# Altium schematic symbol library SCH - PASSIVES - CAPACITOR - MAL216099101E3.SCHLIB: 1 symbol
Pins are listed as number, name and electrical type; pins without a type are passive.

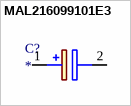
[diagram p0: symbol MAL216099101E3]

## MAL216099101E3
designator C?
Capacitor Polarised
pins: 1 +, 2 -